# EAGLE library part USBUF (library st-microelectronics)
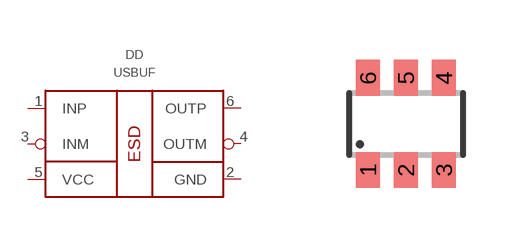
[diagram p7: symbol with the pads of SOT23-6; footprint SOT23-6]

Designator prefix DD

## USBUF02W6  [SOT23-6]
1  INP
2  GND  pwr
3  INM
4  OUTM
5  VCC  pwr
6  OUTP

## Footprint SOT23-6 (pad centres in mm)
Small Outline Transistor 6 lead
smd 0.6 x 0.9: 1 -0.95,-1.15; 2 0,-1.15; 3 0.95,-1.15; 4 0.95,1.15; 5 0,1.15; 6 -0.95,1.15